# EAGLE library part QUAD_OP_AMP (library MeRCIS Lab Parts)
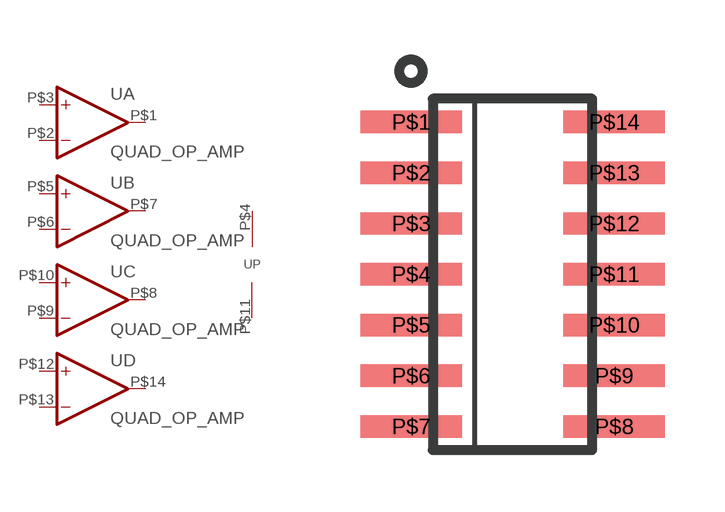
[diagram p3: symbol with the pads of SO-14; footprint SO-14]

Designator prefix -; gates A=OP_AMP B=OP_AMP C=OP_AMP D=OP_AMP P=PWR+-

## QUAD_OP_AMP  [SO-14]
P$1  A:OUT  out
P$2  A:-IN  in
P$3  A:+IN  in
P$4  P:V+  pwr
P$5  B:+IN  in
P$6  B:-IN  in
P$7  B:OUT  out
P$8  C:OUT  out
P$9  C:-IN  in
P$10  C:+IN  in
P$11  P:V-  pwr
P$12  D:+IN  in
P$13  D:-IN  in
P$14  D:OUT  out

## Footprint SO-14 (pad centres in mm)
smd 2.54 x 0.559: P$1 -2.54,1.905; P$2 -2.54,0.635; P$3 -2.54,-0.635; P$4 -2.54,-1.905; P$5 -2.54,-3.175; P$6 -2.54,-4.445; P$7 -2.54,-5.715; P$8 2.54,-5.715; P$9 2.54,-4.445; P$10 2.54,-3.175; P$11 2.54,-1.905; P$12 2.54,-0.635; P$13 2.54,0.635; P$14 2.54,1.905